# Altium footprint library Speaker Library.PcbLib: 36 footprints (part 1 of 3)
Each footprint in its own frame and in the unit in brackets; x right, y up, seen from the top. Pads: shape width x height; smd on the part's side, far side on the other; paste and mask are expansions set on the pad; w line width, h text height; cw(c..) or ccw(c..) is an arc to the next point about the centre after c.
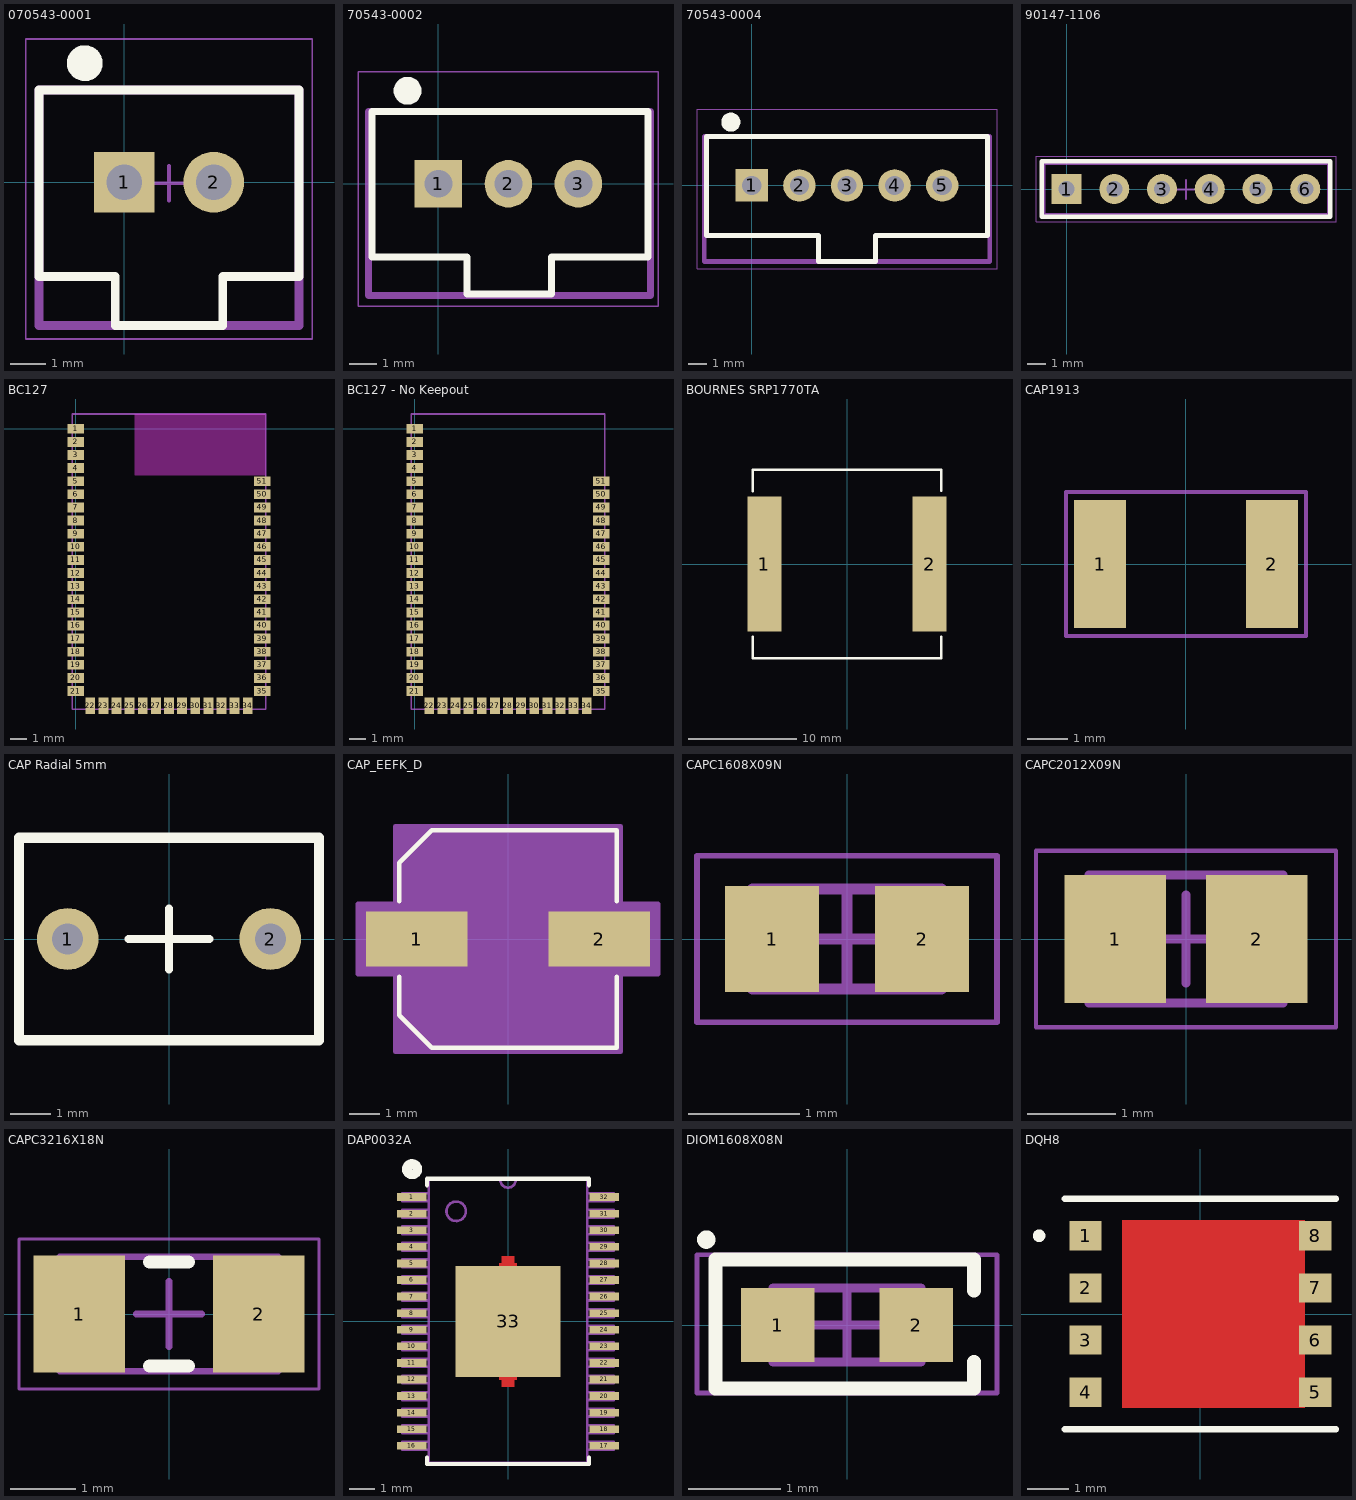
[diagram p0: the footprints below, top view; thin cyan lines are the x and y axes]

## 070543-0001 [mil] "Connector, Through-hole, 2.54mm Pitch"
height 452.76
pads (2):
  rect 67.99x67.99 hole 40: 1(0,0)
  round 67.99 hole 40: 2(100,0)
Top Overlay:
  circle w20: c-44,133 r10
  lines w10: -95,-105 -95,103 195,103 195,-105 110,-105 110,-160 -10,-160 -10,-105 -95,-105
Mechanical 13:
  lines w10: -94.99,-160 195,-160 195,103 -94.99,103 -94.99,-160
Mechanical 15:
  lines w1.97: -110,-175 -110,160 210,160 210,-175 -110,-175
  lines w3.94: 30.32,-1 69.69,-1 ; 50,-20.69 50,18.68
3D body "705430001.stp": height 465, standoff -130, extent -95,-160 195,100

## 70543-0002 [mil] "Connector, Through-hole, 2.54mm Pitch"
height 452.76
pads (3):
  rect 67.99x67.99 hole 40: 1(0,0)
  round 67.99 hole 40: 2(100,0) 3(200,0)
Top Overlay:
  circle w20: c-44,133 r10
  lines w10: 40,-105 -95,-105 -95,103 300,103 300,-105 162,-105 162,-158 ; 41,-105 41,-158 162,-158 ; 42,-158 162,-158
Mechanical 13:
  lines w10: -100,-160 -100,103 303,103 303,-160 -100,-160
Mechanical 15:
  lines w1.97: -115,-175 314,-175 314,160 -115,160 -115,-175
  lines w3.94: 179.31,0 218.69,0 ; 199,-19.69 199,19.68
3D body "705430002.stp": height 465, standoff -130, extent -98,-159 302,101

## 70543-0004 [mil] "Connector, Through-hole, 2.54mm Pitch"
height 452.76
pads (5):
  rect 67.99x67.99 hole 40: 1(0,0)
  round 67.99 hole 40: 2(100,0) 3(200,0) 4(300,0) 5(400,0)
Top Overlay:
  circle w20: c-44,133 r10
  lines w10: 140,-160 260,-160 ; 140,-160 140,-105 -95,-105 -95,103 495,103 495,-105 260,-105 260,-160 ; 140,-160 260,-160
Mechanical 13:
  lines w10: -100,-160 -100,103 500,103 500,-160 -100,-160
Mechanical 15:
  lines w1.97: -115,-175 515,-175 515,160 -115,160 -115,-175
  lines w3.94: 179.31,0 218.69,0 ; 199,-19.69 199,19.68
3D body "705430004.stp": height 465, standoff -130, extent -100,-160 500,100

## 90147-1106 [mil] "Receptacle, 6POS, Through-hole, 2.54mm Pitch"
height 452.76
pads (6):
  rect 63x63 hole 33.46: 1(0,0)
  round 63 hole 33.46: 2(100,0) 3(200,0) 4(300,0) 5(400,0) 6(500,0)
Top Overlay:
  lines w10: 552.17,-58.07 -52.17,-58.07 -52.17,58.07 552.17,58.07 ; 552.56,-58.07 552.56,58.07
Mechanical 13:
  lines w10: -49.21,-55.12 -49.21,55.12 550.2,55.12 550.59,54.72 550.59,-52.76 548.23,-55.12 -49.21,-55.12
Mechanical 15:
  lines w1.97: -63.98,-68.9 -63.98,68.9 564.37,68.9 564.37,-68.9 -63.98,-68.9
  lines w3.94: 230.31,-1 269.69,-1 ; 250,-20.69 250,18.68
3D body "901471106.stp": height 334.65, standoff -114.17, extent -49.99,-49.99 550.01,50.01

## BC127 [mm]
pads (51):
  rect 1x0.6 smd mask+0: 1(0,0) 2(0,-0.8) 3(0,-1.6) 4(0,-2.4) 5(0,-3.2) 6(0,-4) 7(0,-4.8) 8(0,-5.6) 9(0,-6.4) 10(0,-7.2) 11(0,-8) 12(0,-8.8) 13(0,-9.6) 14(0,-10.4) 15(0,-11.2) 16(0,-12) 17(0,-12.8) 18(0,-13.6) 19(0,-14.4) 20(0,-15.2) 21(0,-16) 35(11.4,-16) 36(11.4,-15.2) 37(11.4,-14.4) 38(11.4,-13.6) 39(11.4,-12.8) 40(11.4,-12) 41(11.4,-11.2) 42(11.4,-10.4) 43(11.4,-9.6) 44(11.4,-8.8) 45(11.4,-8) 46(11.4,-7.2) 47(11.4,-6.4) 48(11.4,-5.6) 49(11.4,-4.8) 50(11.4,-4) 51(11.4,-3.2)
  rect 0.6x1 smd mask+0: 22(0.9,-16.9) 23(1.7,-16.9) 24(2.5,-16.9) 25(3.3,-16.9) 26(4.1,-16.9) 27(4.9,-16.9) 28(5.7,-16.9) 29(6.5,-16.9) 30(7.3,-16.9) 31(8.1,-16.9) 32(8.9,-16.9) 33(9.7,-16.9) 34(10.5,-16.9)
Keep-Out Layer:
  rectangle: 3.6,-2.85 11.6,0.9
Mechanical 13:
  lines w0.1: -0.2,-17.1 11.6,-17.1 11.6,0.9 -0.2,0.9 -0.2,-17.1

## BC127 - No Keepout [mm]
pads (51):
  rect 1x0.6 smd mask+0: 1(0,0) 2(0,-0.8) 3(0,-1.6) 4(0,-2.4) 5(0,-3.2) 6(0,-4) 7(0,-4.8) 8(0,-5.6) 9(0,-6.4) 10(0,-7.2) 11(0,-8) 12(0,-8.8) 13(0,-9.6) 14(0,-10.4) 15(0,-11.2) 16(0,-12) 17(0,-12.8) 18(0,-13.6) 19(0,-14.4) 20(0,-15.2) 21(0,-16) 35(11.4,-16) 36(11.4,-15.2) 37(11.4,-14.4) 38(11.4,-13.6) 39(11.4,-12.8) 40(11.4,-12) 41(11.4,-11.2) 42(11.4,-10.4) 43(11.4,-9.6) 44(11.4,-8.8) 45(11.4,-8) 46(11.4,-7.2) 47(11.4,-6.4) 48(11.4,-5.6) 49(11.4,-4.8) 50(11.4,-4) 51(11.4,-3.2)
  rect 0.6x1 smd mask+0: 22(0.9,-16.9) 23(1.7,-16.9) 24(2.5,-16.9) 25(3.3,-16.9) 26(4.1,-16.9) 27(4.9,-16.9) 28(5.7,-16.9) 29(6.5,-16.9) 30(7.3,-16.9) 31(8.1,-16.9) 32(8.9,-16.9) 33(9.7,-16.9) 34(10.5,-16.9)
Mechanical 13:
  lines w0.1: -0.2,-17.1 11.6,-17.1 11.6,0.9 -0.2,0.9 -0.2,-17.1

## BOURNES SRP1770TA [mm] "Nonstandard Inductor"
pads (2):
  rect 3.15x12.5 smd: 1(-7.675,0) 2(7.675,0)
Top Overlay:
  lines w0.2: -8.75,-6.75 -8.75,-8.75 8.75,-8.75 8.75,-6.75 ; -8.75,6.75 -8.75,8.75 8.75,8.75 ; 8.75,6.775 8.75,8.75 ; 8.75,8.75 8.75,8.75
3D body: height 6.7, standoff 0, extent -8.45,-8.45 8.45,8.45

## CAP1913 [mm]
pads (2):
  rect 1.3x3.2 smd: 1(-2.15,0) 2(2.15,0)
Mechanical 15:
  lines w0.1: -3,-1.8 -3,1.8 3,1.8 3,-1.8 -3,-1.8
3D body "CAP_E1.stp": height 1.6, standoff 0, extent -2.502,-1.752 2.502,1.753

## CAP Radial 5mm [mil]
pads (2):
  round 60 hole 30: 1(-98.43,0) 2(98.43,0)
Top Overlay:
  lines w7.87: -39.37,0 39.37,0 ; 0,-29.53 0,29.53
  lines w10: -145.67,-98.43 145.67,-98.43 145.67,98.43 -145.67,98.43 -145.67,-98.43

## CAP_EEFK_D [mil]
pads (2):
  rect 130x70 smd: 1(-116.5,0) 2(116.5,0)
Top Overlay:
  lines w6: -139,-48.1 -139,-97.22 -97.22,-139 139,-139 139,-48.1 ; -139,48.1 -139,97.22 -97.22,139 139,139 139,48.1
Mechanical 15:
  region: -144,-45 -191.5,-45 -191.5,45 -144,45 -144,144 144,144 144,45 191.5,45 191.5,-45 144,-45 144,-144 -144,-144
  lines w6: -191.5,-45 -191.5,45 -144,45 -144,144 144,144 144,45 191.5,45 191.5,-45 144,-45 144,-144 -144,-144 -144,-45 -191.5,-45
3D body "CAP_EEFK_D.stp": height 242, standoff 0, extent -153.5,-134 153.5,134

## CAPC1608X09N [mm] "Chip Capacitor, 2-Leads, Body 1.60x0.80mm, IPC Medium Density"
height 0.9
pads (2):
  rect 0.85x0.95 smd: 1(-0.675,0) 2(0.675,0)
Mechanical 13:
  lines w0.1: -0.85,-0.45 -0.85,0.45 0.85,0.45 0.85,-0.45 -0.85,-0.45
Mechanical 15:
  lines w0.05: -1.35,-0.75 -1.35,0.75 1.35,0.75 1.35,-0.75 -1.35,-0.75
  lines w0.1: -0.45,0 0.45,0 ; 0,-0.45 0,0.45
3D body: height 0.9, standoff 0, extent -0.5,-0.45 0.5,0.45
3D body: height 0.9, standoff 0, extent -0.85,-0.45 -0.5,0.45
3D body: height 0.9, standoff 0, extent 0.5,-0.45 0.85,0.45

## CAPC2012X09N [mm] "Chip Capacitor, 2-Leads, Body 2.00x1.25mm, IPC Medium Density"
height 0.9
pads (2):
  rect 1.15x1.45 smd: 1(-0.8,0) 2(0.8,0)
Mechanical 13:
  lines w0.1: -1.1,-0.725 1.1,-0.725 1.1,0.725 -1.1,0.725 -1.1,-0.725
Mechanical 15:
  lines w0.05: -1.7,-1 1.7,-1 1.7,1 -1.7,1 -1.7,-1
  lines w0.1: -0.5,0 0.5,0 ; 0,-0.5 0,0.5
3D body: height 0.9, standoff 0, extent 0.6,-0.725 1.1,0.725
3D body: height 0.9, standoff 0, extent -1.1,-0.725 -0.6,0.725
3D body: height 0.9, standoff 0, extent -0.6,-0.725 0.6,0.725

## CAPC3216X18N [mm] "Chip Capacitor, 2-Leads, Body 3.20x1.60mm, IPC Medium Density"
height 1.8
pads (2):
  rect 1.4x1.8 smd: 1(-1.375,0) 2(1.375,0)
Top Overlay:
  lines w0.2: -0.3,-0.8 0.3,-0.8 ; -0.3,0.8 0.3,0.8
Mechanical 13:
  lines w0.1: -1.675,-0.875 -1.675,0.875 1.675,0.875 1.675,-0.875 -1.675,-0.875
Mechanical 15:
  lines w0.05: -2.3,-1.15 -2.3,1.15 2.3,1.15 2.3,-1.15 -2.3,-1.15
  lines w0.1: -0.5,0 0.5,0 ; 0,-0.5 0,0.5
3D body: height 1.8, standoff 0, extent -1.125,-0.875 1.125,0.875
3D body: height 1.8, standoff 0, extent -1.675,-0.875 -1.125,0.875
3D body: height 1.8, standoff 0, extent 1.125,-0.875 1.675,0.875

## DAP0032A [mil]
pads (33):
  rect 46x12 smd paste-4 mask+2: 1(-148.5,191.93) 2(-148.5,166.34) 3(-148.5,140.75) 4(-148.5,115.16) 5(-148.5,89.57) 6(-148.5,63.98) 7(-148.5,38.39) 8(-148.5,12.8) 9(-148.5,-12.8) 10(-148.5,-38.39) 11(-148.5,-63.98) 12(-148.5,-89.57) 13(-148.5,-115.16) 14(-148.5,-140.75) 15(-148.5,-166.34) 16(-148.5,-191.93) 17(148.5,-191.93) 18(148.5,-166.34) 19(148.5,-140.75) 20(148.5,-115.16) 21(148.5,-89.57) 22(148.5,-63.98) 23(148.5,-38.39) 24(148.5,-12.8) 25(148.5,12.8) 26(148.5,38.39) 27(148.5,63.98) 28(148.5,89.57) 29(148.5,115.16) 30(148.5,140.75) 31(148.5,166.34) 32(148.5,191.93)
  rect 161.81x171.65 smd paste-4 mask+2: 33(0,0)
Top Layer:
  region: 13.78,89.76 13.78,85.83 -13.78,85.83 -13.78,89.76 -9.84,89.76 -9.84,100.39 9.84,100.39 9.84,89.76
  region: 13.78,-89.76 13.78,-85.83 -13.78,-85.83 -13.78,-89.76 -9.84,-89.76 -9.84,-100.39 9.84,-100.39 9.84,-89.76
Top Overlay:
  circle w15: c-148,235 r8
  lines w6.69: -125,-210 -125,-220 125,-220 125,-210 ; -125,210 -125,220 125,220 125,210
Mechanical 1:
  circle w4: c-80,170 r15
  lines w4: -12,218.5 ccw(c0,218.5) 12,218.5 ; -163.5,-197.93 -163.5,-185.93 -122,-185.93 -122,-197.93 -163.5,-197.93 ; -163.5,-172.34 -163.5,-160.34 -122,-160.34 -122,-172.34 -163.5,-172.34 ; -163.5,-146.75 -163.5,-134.75 -122,-134.75 -122,-146.75 -163.5,-146.75 ; -163.5,-121.16 -163.5,-109.16 -122,-109.16 -122,-121.16 -163.5,-121.16 ; -163.5,-95.57 -163.5,-83.57 -122,-83.57 -122,-95.57 -163.5,-95.57 ; -163.5,-69.98 -163.5,-57.98 -122,-57.98 -122,-69.98 -163.5,-69.98 ; -163.5,-44.39 -163.5,-32.39 -122,-32.39 -122,-44.39 -163.5,-44.39 ; -163.5,-18.8 -163.5,-6.8 -122,-6.8 -122,-18.8 -163.5,-18.8 ; -163.5,6.8 -163.5,18.8 -122,18.8 -122,6.8 -163.5,6.8 ; -163.5,32.39 -163.5,44.39 -122,44.39 -122,32.39 -163.5,32.39 ; -163.5,57.98 -163.5,69.98 -122,69.98 -122,57.98 -163.5,57.98 ; -163.5,83.57 -163.5,95.57 -122,95.57 -122,83.57 -163.5,83.57 ; -163.5,109.16 -163.5,121.16 -122,121.16 -122,109.16 -163.5,109.16 ; -163.5,134.75 -163.5,146.75 -122,146.75 -122,134.75 -163.5,134.75 ; -163.5,160.34 -163.5,172.34 -122,172.34 -122,160.34 -163.5,160.34 ; -163.5,185.93 -163.5,197.93 -122,197.93 -122,185.93 -163.5,185.93 ; -122,-218.5 -122,218.5 122,218.5 122,-218.5 -122,-218.5 ; 122,-197.93 122,-185.93 163.5,-185.93 163.5,-197.93 122,-197.93 ; 122,-172.34 122,-160.34 163.5,-160.34 163.5,-172.34 122,-172.34 ; 122,-146.75 122,-134.75 163.5,-134.75 163.5,-146.75 122,-146.75 ; 122,-121.16 122,-109.16 163.5,-109.16 163.5,-121.16 122,-121.16 ; 122,-95.57 122,-83.57 163.5,-83.57 163.5,-95.57 122,-95.57 ; 122,-69.98 122,-57.98 163.5,-57.98 163.5,-69.98 122,-69.98 ; 122,-44.39 122,-32.39 163.5,-32.39 163.5,-44.39 122,-44.39 ; 122,-18.8 122,-6.8 163.5,-6.8 163.5,-18.8 122,-18.8 ; 122,6.8 122,18.8 163.5,18.8 163.5,6.8 122,6.8 ; 122,32.39 122,44.39 163.5,44.39 163.5,32.39 122,32.39 ; 122,57.98 122,69.98 163.5,69.98 163.5,57.98 122,57.98 ; 122,83.57 122,95.57 163.5,95.57 163.5,83.57 122,83.57 ; 122,109.16 122,121.16 163.5,121.16 163.5,109.16 122,109.16 ; 122,134.75 122,146.75 163.5,146.75 163.5,134.75 122,134.75 ; 122,160.34 122,172.34 163.5,172.34 163.5,160.34 122,160.34 ; 122,185.93 122,197.93 163.5,197.93 163.5,185.93 122,185.93
3D body "DAP0032A.stp": height 43.31, standoff 0, extent -159.85,-216.53 159.87,216.54

## DIOM1608X08N [mm] "Molded Diode, 2-Leads, Body 1.60x0.80mm, IPC Medium Density"
height 0.8
pads (2):
  rect 0.8x0.8 smd: 1(-0.75,0) 2(0.75,0)
Top Overlay:
  circle w0.1: c-1.525,0.925 r0.05
  lines w0.152: 1.375,-0.4 1.375,-0.686 -1.422,-0.686 -1.422,0.711 1.375,0.711 1.375,0.375
Mechanical 13:
  rectangle: 0.585,-0.4 0.8,0.4
  lines w0.1: -0.8,-0.4 -0.8,0.4 0.8,0.4 0.8,-0.4 -0.8,-0.4
Mechanical 15:
  lines w0.05: -1.625,-0.737 -1.625,0.762 1.625,0.762 1.625,-0.737 -1.625,-0.737
  lines w0.1: -0.4,0 0.4,0 ; 0,-0.4 0,0.4
3D body: height 0.8, standoff 0.3, extent -0.508,-0.305 0.508,0.305
3D body: height 0.3, standoff 0, extent -0.8,-0.4 0.8,0.4

## DQH8 [mil]
pads (8):
  rect 31x28 smd paste-14: 1(-110,75) 2(-110,25) 3(-110,-25) 4(-110,-75) 5(110,-75) 6(110,-25) 7(110,25) 8(110,75)
Top Layer:
  region: -75,90 -75,75 -75,-75 -75,-90 100,-90 100,90
Top Overlay:
  circle w6: c-154.5,75 r3
  lines w6: -130,-110.5 130,-110.5 ; -130,110.5 130,110.5
Top Paste:
  region: 15,35 15,85 90,85 90,35
  region: 15,-25 15,25 90,25 90,-25
  region: -70,-25 -70,25 5,25 5,-25
  region: -70,35 -70,85 5,85 5,35
  region: 15,-85 15,-35 90,-35 90,-85
  region: -70,-85 -70,-35 5,-35 5,-85
  region: 125.47,88.97 94.53,88.97 94.53,61.02 125.47,61.02
  region: 125.47,38.98 94.53,38.98 94.53,11.03 125.47,11.03
  region: 125.47,-11.03 94.53,-11.03 94.53,-38.98 125.47,-38.98
  region: 125.47,-61.02 94.53,-61.02 94.53,-88.97 125.47,-88.97
  region: -94.53,-61.02 -125.47,-61.02 -125.47,-88.97 -94.53,-88.97
  region: -94.53,-11.03 -125.47,-11.03 -125.47,-38.98 -94.53,-38.98
  region: -94.53,38.98 -125.47,38.98 -125.47,11.03 -94.53,11.03
  region: -94.53,88.97 -125.47,88.97 -125.47,61.02 -94.53,61.02
Top Solder:
  region: 102,-92 102,53 102,92 -77,92 -77,-92
  region: 125.57,89.07 94.43,89.07 94.43,60.93 125.57,60.93
  region: 125.57,39.07 94.43,39.07 94.43,10.93 125.57,10.93
  region: 125.57,-10.93 94.43,-10.93 94.43,-39.07 125.57,-39.07
  region: 125.57,-60.93 94.43,-60.93 94.43,-89.07 125.57,-89.07
  region: -94.43,-60.93 -125.57,-60.93 -125.57,-89.07 -94.43,-89.07
  region: -94.43,-10.93 -125.57,-10.93 -125.57,-39.07 -94.43,-39.07
  region: -94.43,39.07 -125.57,39.07 -125.57,10.93 -94.43,10.93
  region: -94.43,89.07 -125.57,89.07 -125.57,60.93 -94.43,60.93